# EAGLE library part PD69200 (library MicroSemi_PoE_PSE)
Microsemi 8 Port PSE PoE Controller
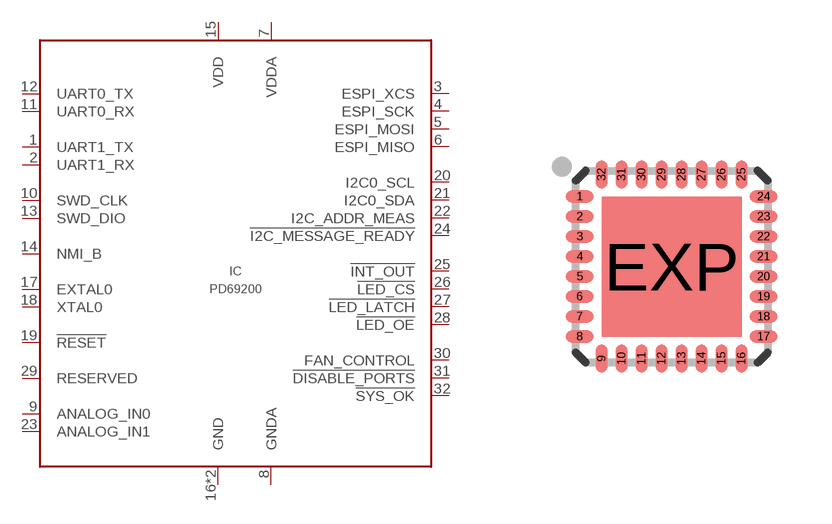
[diagram p0: symbol with the pads of QFN32; footprint QFN32]

Designator prefix IC

## PD69200  [QFN32]
1  UART1_TX  out
2  UART1_RX  in
3  ESPI_XCS  out
4  ESPI_SCK  out
5  ESPI_MOSI  out
6  ESPI_MISO  in
7  VDDA  pwr
8  GNDA  pwr
9  ANALOG_IN0  in
10  SWD_CLK
11  UART0_RX  in
12  UART0_TX  out
13  SWD_DIO
14  NMI_B  in
15  VDD  pwr
16  GND  pwr
17  EXTAL0  nc
18  XTAL0  nc
19  !RESET  oc
20  I2C0_SCL  oc
21  I2C0_SDA  oc
22  I2C_ADDR_MEAS  in
23  ANALOG_IN1  in
24  !I2C_MESSAGE_READY  oc
25  !INT_OUT  oc
26  !LED_CS  out
27  !LED_LATCH  out
28  !LED_OE  out
29  RESERVED  in
30  FAN_CONTROL  out
31  !DISABLE_PORTS  in
32  !SYS_OK  out
EXP  GND  pwr

## Footprint QFN32 (pad centres in mm)
32-Pin (5x5 mm) QFN Source: http://www.cypress.com .. 38-12025_0P_V.pdf
smd 0.7 x 0.3: 1 -2.3,1.75; 2 -2.3,1.25; 3 -2.3,0.75; 4 -2.3,0.25; 5 -2.3,-0.25; 6 -2.3,-0.75; 7 -2.3,-1.25; 8 -2.3,-1.75; 17 2.3,-1.75; 18 2.3,-1.25; 19 2.3,-0.75; 20 2.3,-0.25; 21 2.3,0.25; 22 2.3,0.75; 23 2.3,1.25; 24 2.3,1.75
smd 0.3 x 0.7: 9 -1.75,-2.3; 10 -1.25,-2.3; 11 -0.75,-2.3; 12 -0.25,-2.3; 13 0.25,-2.3; 14 0.75,-2.3; 15 1.25,-2.3; 16 1.75,-2.3; 25 1.75,2.3; 26 1.25,2.3; 27 0.75,2.3; 28 0.25,2.3; 29 -0.25,2.3; 30 -0.75,2.3; 31 -1.25,2.3; 32 -1.75,2.3
smd 3.5 x 3.5: EXP 0,0